# EAGLE library part TPS561208DDCR (library DougsLab)
http://www.ti.com/lit/ds/symlink/tps561201.pdf
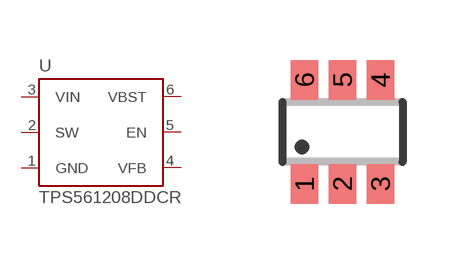
[diagram p1: symbol with the pads of SSOT6; footprint SSOT6]

Designator prefix U

## TPS561208DDCR  [SSOT6]
1  GND  pwr
2  SW
3  VIN  pwr
4  VFB
5  EN  in
6  VBST

## Footprint SSOT6 (pad centres in mm)
SuperSOT-6 Source: Fairchild Semiconductor International ssot6_dim.pdf September 1998, Rev. A
smd 0.69 x 0.99: 1 -0.95,-1.3; 2 0,-1.3; 3 0.95,-1.3; 4 0.95,1.3; 5 0,1.3; 6 -0.95,1.3